# Altium integrated library Integrated_Library1b.IntLib: 1312 symbols (part 44 of 58)
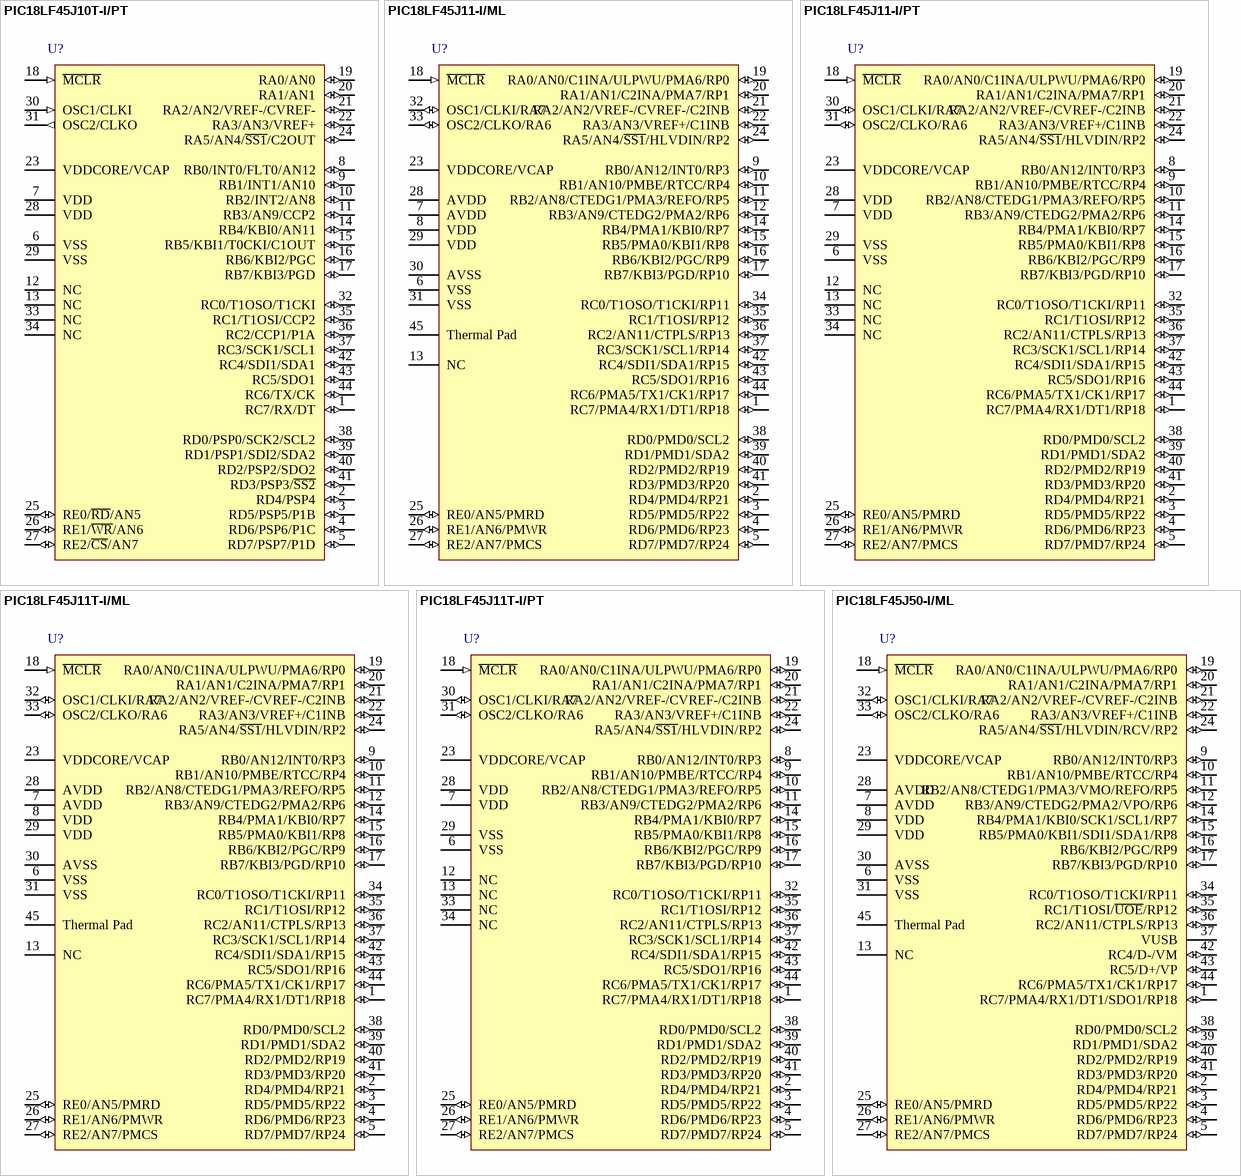
[diagram p192: symbols PIC18LF45J10T-I/PT to PIC18LF45J50-I/ML]

## PIC18LF45J50-I/ML
designator U?
Low Power, High Performance USB Microcontroller with nanoWatt XLP Technology, 44-pin QFN, Industrial Temperature; FirstPublished: 2-Dec-2009; DatasheetVersion: revC, Oct-2009; PackageVersion: revBB, Aug-2009; PackageReference: QFN-ML44; Publisher: Altium Limited; PackageDescription: 44-Lead Plastic Quad Flat, No Lead Package (ML) - 8x8 mm Body [QFN]; Supplier 1: Digi-Key; Supplier Part Number 1: PIC18LF45J50-I/ML-ND; Supplier 2: Farnell; Supplier Part Number 2: 1770740; Supplier 3: Newark; Supplier Part Number 3: 98M1892; Code_JEDEC: MO-220; Code_IPC: QFN65P800X800-44V2; ComponentLink1Description: Datasheet; ComponentLink1URL: http://ww1.microchip.com/downloads/en/DeviceDoc/39931c.pdf; ComponentLink2Description: Packaging Specification; ComponentLink2URL: http://www.microchip.com/stellent/groups/techpub_sg/documents/packagingspec/en012702.pdf; ComponentLink3Description: Microchip.com Home; ComponentLink3URL: http://www.microchip.com/
footprint QFN-ML44_N (QFN, 44-Leads, Body 8x8 mm, Pitch 0.65mm, IPC Medium Density)
footprint QFN-ML44_L (QFN, 44-Leads, Body 8x8 mm, Pitch 0.65mm, IPC High Density)
footprint QFN-ML44_M (QFN, 44-Leads, Body 8x8 mm, Pitch 0.65mm, IPC Low Density)
pins: 1 RC7/PMA4/RX1/DT1/SDO1/RP18 (io), 2 RD4/PMD4/RP21 (io), 3 RD5/PMD5/RP22 (io), 4 RD6/PMD6/RP23 (io), 5 RD7/PMD7/RP24 (io), 6 VSS (power), 7 AVDD (power), 8 VDD (power), 9 RB0/AN12/INT0/RP3 (io), 10 RB1/AN10/PMBE/RTCC/RP4 (io), 11 RB2/AN8/CTEDG1/PMA3/VMO/REFO/RP5 (io), 12 RB3/AN9/CTEDG2/PMA2/VPO/RP6 (io), 13 NC, 14 RB4/PMA1/KBI0/SCK1/SCL1/RP7 (io), 15 RB5/PMA0/KBI1/SDI1/SDA1/RP8 (io), 16 RB6/KBI2/PGC/RP9 (io), 17 RB7/KBI3/PGD/RP10 (io), 18 ~{MCLR} (in), 19 RA0/AN0/C1INA/ULPWU/PMA6/RP0 (io), 20 RA1/AN1/C2INA/PMA7/RP1 (io), 21 RA2/AN2/VREF-/CVREF-/C2INB (io), 22 RA3/AN3/VREF+/C1INB (io), 23 VDDCORE/VCAP (power), 24 RA5/AN4/~{SS1}/HLVDIN/RCV/RP2 (io), 25 RE0/AN5/PMRD (io), 26 RE1/AN6/PMWR (io), 27 RE2/AN7/PMCS (io), 28 AVDD (power), 29 VDD (power), 30 AVSS (power), 31 VSS (power), 32 OSC1/CLKI/RA7 (io), 33 OSC2/CLKO/RA6 (io), 34 RC0/T1OSO/T1CKI/RP11 (io), 35 RC1/T1OSI/~{UOE}/RP12 (io), 36 RC2/AN11/CTPLS/RP13 (io), 37 VUSB (power), 38 RD0/PMD0/SCL2 (io), 39 RD1/PMD1/SDA2 (io), 40 RD2/PMD2/RP19 (io), 41 RD3/PMD3/RP20 (io), 42 RC4/D-/VM (io), 43 RC5/D+/VP (io), 44 RC6/PMA5/TX1/CK1/RP17 (io), 45 Thermal Pad (power)

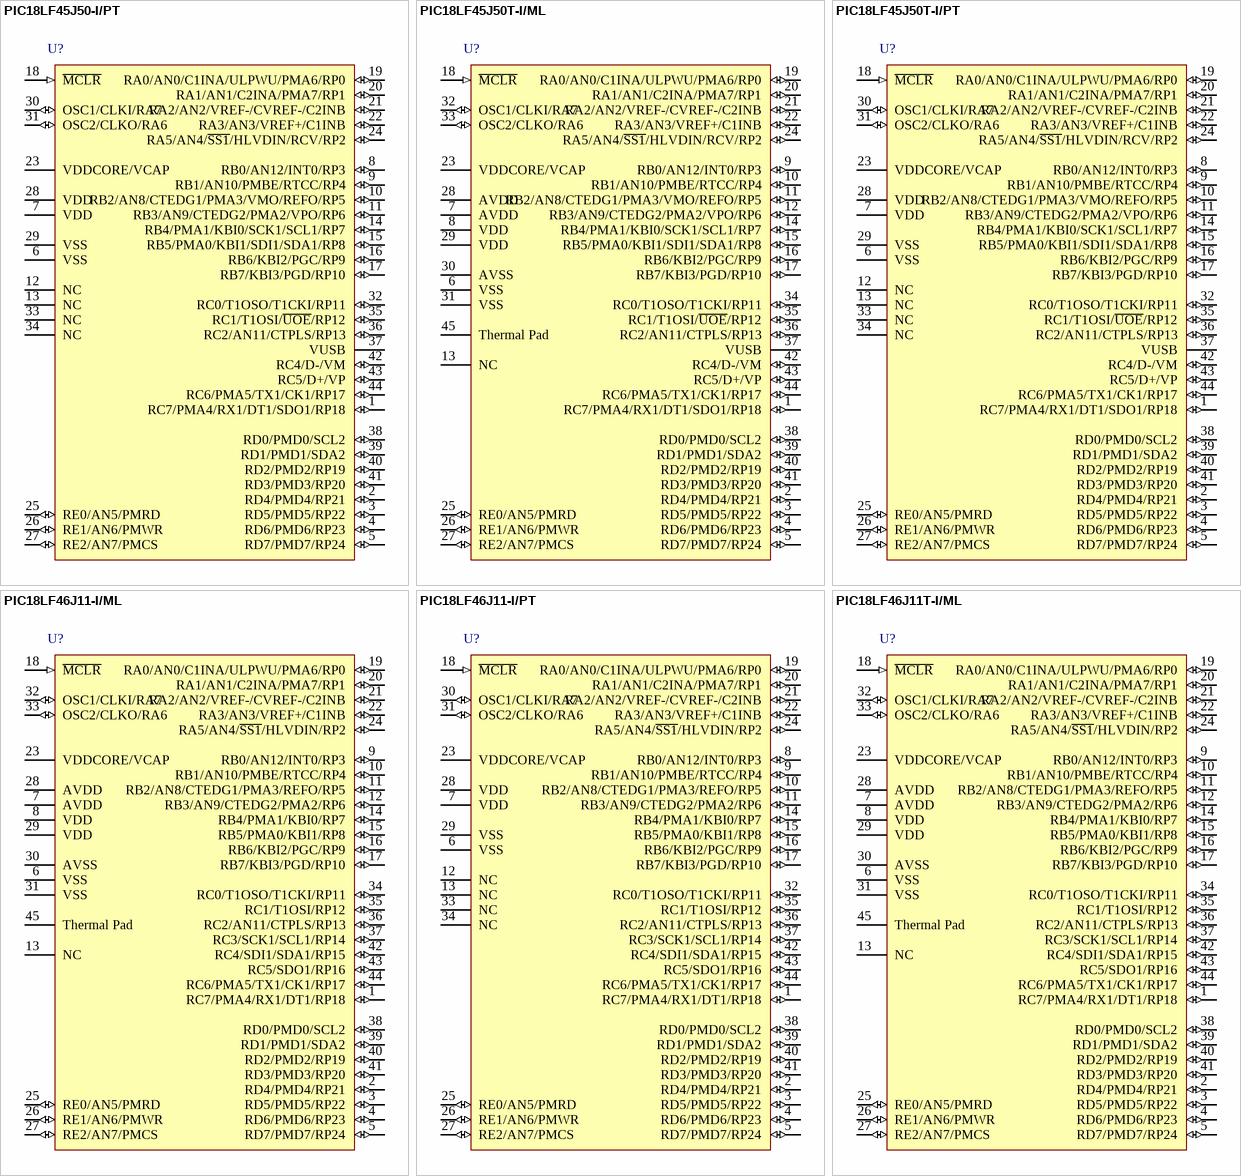
[diagram p115: symbols PIC18LF45J50-I/PT to PIC18LF46J11T-I/ML]

## PIC18LF45J50-I/PT
designator U?
Low Power, High Performance USB Microcontroller with nanoWatt XLP Technology, 44-pin TQFP, Industrial Temperature; FirstPublished: 2-Dec-2009; DatasheetVersion: revC, Oct-2009; PackageVersion: revBB, Aug-2009; PackageReference: TQFP-PT44; Publisher: Altium Limited; PackageDescription: 44-Lead Plastic Thin Quad Flatpack (PT) - 10x10x1mm Body, 2.00mm [TQFP]; Supplier 1: Digi-Key; Supplier Part Number 1: PIC18LF45J50-I/PT-ND; Supplier 2: Farnell; Supplier Part Number 2: 1770741; Supplier 3: Newark; Supplier Part Number 3: 98M1893; Code_JEDEC: MS-026; ComponentLink1Description: Datasheet; ComponentLink1URL: http://ww1.microchip.com/downloads/en/DeviceDoc/39931c.pdf; ComponentLink2Description: Packaging Specification; ComponentLink2URL: http://www.microchip.com/stellent/groups/techpub_sg/documents/packagingspec/en012702.pdf; ComponentLink3Description: Microchip.com Home; ComponentLink3URL: http://www.microchip.com/
footprint TQFP-PT44_N (Thin QFP, 44-Leads, Body 10x10mm, Pitch 0.8mm, IPC Medium Density)
footprint TQFP-PT44_L (Thin QFP, 44-Leads, Body 10x10mm, Pitch 0.8mm, IPC High Density)
footprint TQFP-PT44_M (Thin QFP, 44-Leads, Body 10x10mm, Pitch 0.8mm, IPC Low Density)
pins: 1 RC7/PMA4/RX1/DT1/SDO1/RP18 (io), 2 RD4/PMD4/RP21 (io), 3 RD5/PMD5/RP22 (io), 4 RD6/PMD6/RP23 (io), 5 RD7/PMD7/RP24 (io), 6 VSS (power), 7 VDD (power), 8 RB0/AN12/INT0/RP3 (io), 9 RB1/AN10/PMBE/RTCC/RP4 (io), 10 RB2/AN8/CTEDG1/PMA3/VMO/REFO/RP5 (io), 11 RB3/AN9/CTEDG2/PMA2/VPO/RP6 (io), 12 NC, 13 NC, 14 RB4/PMA1/KBI0/SCK1/SCL1/RP7 (io), 15 RB5/PMA0/KBI1/SDI1/SDA1/RP8 (io), 16 RB6/KBI2/PGC/RP9 (io), 17 RB7/KBI3/PGD/RP10 (io), 18 ~{MCLR} (in), 19 RA0/AN0/C1INA/ULPWU/PMA6/RP0 (io), 20 RA1/AN1/C2INA/PMA7/RP1 (io), 21 RA2/AN2/VREF-/CVREF-/C2INB (io), 22 RA3/AN3/VREF+/C1INB (io), 23 VDDCORE/VCAP (power), 24 RA5/AN4/~{SS1}/HLVDIN/RCV/RP2 (io), 25 RE0/AN5/PMRD (io), 26 RE1/AN6/PMWR (io), 27 RE2/AN7/PMCS (io), 28 VDD (power), 29 VSS (power), 30 OSC1/CLKI/RA7 (io), 31 OSC2/CLKO/RA6 (io), 32 RC0/T1OSO/T1CKI/RP11 (io), 33 NC, 34 NC, 35 RC1/T1OSI/~{UOE}/RP12 (io), 36 RC2/AN11/CTPLS/RP13 (io), 37 VUSB (power), 38 RD0/PMD0/SCL2 (io), 39 RD1/PMD1/SDA2 (io), 40 RD2/PMD2/RP19 (io), 41 RD3/PMD3/RP20 (io), 42 RC4/D-/VM (io), 43 RC5/D+/VP (io), 44 RC6/PMA5/TX1/CK1/RP17 (io)

## PIC18LF45J50T-I/ML
designator U?
Low Power, High Performance USB Microcontroller with nanoWatt XLP Technology, 44-pin QFN, Industrial Temperature, Tape and Reel; FirstPublished: 2-Dec-2009; DatasheetVersion: revC, Oct-2009; PackageVersion: revBB, Aug-2009; PackageReference: QFN-ML44; Publisher: Altium Limited; PackageDescription: 44-Lead Plastic Quad Flat, No Lead Package (ML) - 8x8 mm Body [QFN]; Supplier 1: Digi-Key; Supplier Part Number 1: PIC18LF45J50T-I/ML-ND; Supplier 2: Newark; Supplier Part Number 2: 98M1894; Code_JEDEC: MO-220; Code_IPC: QFN65P800X800-44V2; ComponentLink1Description: Datasheet; ComponentLink1URL: http://ww1.microchip.com/downloads/en/DeviceDoc/39931c.pdf; ComponentLink2Description: Packaging Specification; ComponentLink2URL: http://www.microchip.com/stellent/groups/techpub_sg/documents/packagingspec/en012702.pdf; ComponentLink3Description: Microchip.com Home; ComponentLink3URL: http://www.microchip.com/
footprint QFN-ML44_N (QFN, 44-Leads, Body 8x8 mm, Pitch 0.65mm, IPC Medium Density)
footprint QFN-ML44_L (QFN, 44-Leads, Body 8x8 mm, Pitch 0.65mm, IPC High Density)
footprint QFN-ML44_M (QFN, 44-Leads, Body 8x8 mm, Pitch 0.65mm, IPC Low Density)
pins: 1 RC7/PMA4/RX1/DT1/SDO1/RP18 (io), 2 RD4/PMD4/RP21 (io), 3 RD5/PMD5/RP22 (io), 4 RD6/PMD6/RP23 (io), 5 RD7/PMD7/RP24 (io), 6 VSS (power), 7 AVDD (power), 8 VDD (power), 9 RB0/AN12/INT0/RP3 (io), 10 RB1/AN10/PMBE/RTCC/RP4 (io), 11 RB2/AN8/CTEDG1/PMA3/VMO/REFO/RP5 (io), 12 RB3/AN9/CTEDG2/PMA2/VPO/RP6 (io), 13 NC, 14 RB4/PMA1/KBI0/SCK1/SCL1/RP7 (io), 15 RB5/PMA0/KBI1/SDI1/SDA1/RP8 (io), 16 RB6/KBI2/PGC/RP9 (io), 17 RB7/KBI3/PGD/RP10 (io), 18 ~{MCLR} (in), 19 RA0/AN0/C1INA/ULPWU/PMA6/RP0 (io), 20 RA1/AN1/C2INA/PMA7/RP1 (io), 21 RA2/AN2/VREF-/CVREF-/C2INB (io), 22 RA3/AN3/VREF+/C1INB (io), 23 VDDCORE/VCAP (power), 24 RA5/AN4/~{SS1}/HLVDIN/RCV/RP2 (io), 25 RE0/AN5/PMRD (io), 26 RE1/AN6/PMWR (io), 27 RE2/AN7/PMCS (io), 28 AVDD (power), 29 VDD (power), 30 AVSS (power), 31 VSS (power), 32 OSC1/CLKI/RA7 (io), 33 OSC2/CLKO/RA6 (io), 34 RC0/T1OSO/T1CKI/RP11 (io), 35 RC1/T1OSI/~{UOE}/RP12 (io), 36 RC2/AN11/CTPLS/RP13 (io), 37 VUSB (power), 38 RD0/PMD0/SCL2 (io), 39 RD1/PMD1/SDA2 (io), 40 RD2/PMD2/RP19 (io), 41 RD3/PMD3/RP20 (io), 42 RC4/D-/VM (io), 43 RC5/D+/VP (io), 44 RC6/PMA5/TX1/CK1/RP17 (io), 45 Thermal Pad (power)

## PIC18LF45J50T-I/PT
designator U?
Low Power, High Performance USB Microcontroller with nanoWatt XLP Technology, 44-pin TQFP, Industrial Temperature, Tape and Reel; FirstPublished: 2-Dec-2009; DatasheetVersion: revC, Oct-2009; PackageVersion: revBB, Aug-2009; PackageReference: TQFP-PT44; Publisher: Altium Limited; PackageDescription: 44-Lead Plastic Thin Quad Flatpack (PT) - 10x10x1mm Body, 2.00mm [TQFP]; Supplier 1: Digi-Key; Supplier Part Number 1: PIC18LF45J50T-I/PT-ND; Supplier 2: Newark; Supplier Part Number 2: 98M1895; Code_JEDEC: MS-026; ComponentLink1Description: Datasheet; ComponentLink1URL: http://ww1.microchip.com/downloads/en/DeviceDoc/39931c.pdf; ComponentLink2Description: Packaging Specification; ComponentLink2URL: http://www.microchip.com/stellent/groups/techpub_sg/documents/packagingspec/en012702.pdf; ComponentLink3Description: Microchip.com Home; ComponentLink3URL: http://www.microchip.com/
footprint TQFP-PT44_N (Thin QFP, 44-Leads, Body 10x10mm, Pitch 0.8mm, IPC Medium Density)
footprint TQFP-PT44_L (Thin QFP, 44-Leads, Body 10x10mm, Pitch 0.8mm, IPC High Density)
footprint TQFP-PT44_M (Thin QFP, 44-Leads, Body 10x10mm, Pitch 0.8mm, IPC Low Density)
pins: 1 RC7/PMA4/RX1/DT1/SDO1/RP18 (io), 2 RD4/PMD4/RP21 (io), 3 RD5/PMD5/RP22 (io), 4 RD6/PMD6/RP23 (io), 5 RD7/PMD7/RP24 (io), 6 VSS (power), 7 VDD (power), 8 RB0/AN12/INT0/RP3 (io), 9 RB1/AN10/PMBE/RTCC/RP4 (io), 10 RB2/AN8/CTEDG1/PMA3/VMO/REFO/RP5 (io), 11 RB3/AN9/CTEDG2/PMA2/VPO/RP6 (io), 12 NC, 13 NC, 14 RB4/PMA1/KBI0/SCK1/SCL1/RP7 (io), 15 RB5/PMA0/KBI1/SDI1/SDA1/RP8 (io), 16 RB6/KBI2/PGC/RP9 (io), 17 RB7/KBI3/PGD/RP10 (io), 18 ~{MCLR} (in), 19 RA0/AN0/C1INA/ULPWU/PMA6/RP0 (io), 20 RA1/AN1/C2INA/PMA7/RP1 (io), 21 RA2/AN2/VREF-/CVREF-/C2INB (io), 22 RA3/AN3/VREF+/C1INB (io), 23 VDDCORE/VCAP (power), 24 RA5/AN4/~{SS1}/HLVDIN/RCV/RP2 (io), 25 RE0/AN5/PMRD (io), 26 RE1/AN6/PMWR (io), 27 RE2/AN7/PMCS (io), 28 VDD (power), 29 VSS (power), 30 OSC1/CLKI/RA7 (io), 31 OSC2/CLKO/RA6 (io), 32 RC0/T1OSO/T1CKI/RP11 (io), 33 NC, 34 NC, 35 RC1/T1OSI/~{UOE}/RP12 (io), 36 RC2/AN11/CTPLS/RP13 (io), 37 VUSB (power), 38 RD0/PMD0/SCL2 (io), 39 RD1/PMD1/SDA2 (io), 40 RD2/PMD2/RP19 (io), 41 RD3/PMD3/RP20 (io), 42 RC4/D-/VM (io), 43 RC5/D+/VP (io), 44 RC6/PMA5/TX1/CK1/RP17 (io)

## PIC18LF46J11-I/ML
designator U?
Low Power, High Performance Microcontroller with nanoWatt XLP Technology, 44-pin QFN, Industrial Temperature; FirstPublished: 2-Dec-2009; DatasheetVersion: revC, Oct-2009; PackageVersion: revBB, Aug-2009; PackageReference: QFN-ML44; Publisher: Altium Limited; PackageDescription: 44-Lead Plastic Quad Flat, No Lead Package (ML) - 8x8 mm Body [QFN]; Supplier 1: Digi-Key; Supplier Part Number 1: PIC18LF46J11-I/ML-ND; Supplier 2: Farnell; Supplier Part Number 2: 1770742; Supplier 3: Newark; Supplier Part Number 3: 98M1896; Code_JEDEC: MO-220; Code_IPC: QFN65P800X800-44V2; ComponentLink1Description: Datasheet; ComponentLink1URL: http://ww1.microchip.com/downloads/en/DeviceDoc/39932c.pdf; ComponentLink2Description: Packaging Specification; ComponentLink2URL: http://www.microchip.com/stellent/groups/techpub_sg/documents/packagingspec/en012702.pdf; ComponentLink3Description: Microchip.com Home; ComponentLink3URL: http://www.microchip.com/
footprint QFN-ML44_N (QFN, 44-Leads, Body 8x8 mm, Pitch 0.65mm, IPC Medium Density)
footprint QFN-ML44_L (QFN, 44-Leads, Body 8x8 mm, Pitch 0.65mm, IPC High Density)
footprint QFN-ML44_M (QFN, 44-Leads, Body 8x8 mm, Pitch 0.65mm, IPC Low Density)
pins: 1 RC7/PMA4/RX1/DT1/RP18 (io), 2 RD4/PMD4/RP21 (io), 3 RD5/PMD5/RP22 (io), 4 RD6/PMD6/RP23 (io), 5 RD7/PMD7/RP24 (io), 6 VSS (power), 7 AVDD (power), 8 VDD (power), 9 RB0/AN12/INT0/RP3 (io), 10 RB1/AN10/PMBE/RTCC/RP4 (io), 11 RB2/AN8/CTEDG1/PMA3/REFO/RP5 (io), 12 RB3/AN9/CTEDG2/PMA2/RP6 (io), 13 NC, 14 RB4/PMA1/KBI0/RP7 (io), 15 RB5/PMA0/KBI1/RP8 (io), 16 RB6/KBI2/PGC/RP9 (io), 17 RB7/KBI3/PGD/RP10 (io), 18 ~{MCLR} (in), 19 RA0/AN0/C1INA/ULPWU/PMA6/RP0 (io), 20 RA1/AN1/C2INA/PMA7/RP1 (io), 21 RA2/AN2/VREF-/CVREF-/C2INB (io), 22 RA3/AN3/VREF+/C1INB (io), 23 VDDCORE/VCAP (power), 24 RA5/AN4/~{SS1}/HLVDIN/RP2 (io), 25 RE0/AN5/PMRD (io), 26 RE1/AN6/PMWR (io), 27 RE2/AN7/PMCS (io), 28 AVDD (power), 29 VDD (power), 30 AVSS (power), 31 VSS (power), 32 OSC1/CLKI/RA7 (io), 33 OSC2/CLKO/RA6 (io), 34 RC0/T1OSO/T1CKI/RP11 (io), 35 RC1/T1OSI/RP12 (io), 36 RC2/AN11/CTPLS/RP13 (io), 37 RC3/SCK1/SCL1/RP14 (io), 38 RD0/PMD0/SCL2 (io), 39 RD1/PMD1/SDA2 (io), 40 RD2/PMD2/RP19 (io), 41 RD3/PMD3/RP20 (io), 42 RC4/SDI1/SDA1/RP15 (io), 43 RC5/SDO1/RP16 (io), 44 RC6/PMA5/TX1/CK1/RP17 (io), 45 Thermal Pad (power)

## PIC18LF46J11-I/PT
designator U?
Low Power, High Performance Microcontroller with nanoWatt XLP Technology, 44-pin TQFP, Industrial Temperature; FirstPublished: 2-Dec-2009; DatasheetVersion: revC, Oct-2009; PackageVersion: revBB, Aug-2009; PackageReference: TQFP-PT44; Publisher: Altium Limited; PackageDescription: 44-Lead Plastic Thin Quad Flatpack (PT) - 10x10x1mm Body, 2.00mm [TQFP]; Supplier 1: Digi-Key; Supplier Part Number 1: PIC18LF46J11-I/PT-ND; Supplier 2: Farnell; Supplier Part Number 2: 1770744; Supplier 3: Newark; Supplier Part Number 3: 98M1897; Code_JEDEC: MS-026; ComponentLink1Description: Datasheet; ComponentLink1URL: http://ww1.microchip.com/downloads/en/DeviceDoc/39932c.pdf; ComponentLink2Description: Packaging Specification; ComponentLink2URL: http://www.microchip.com/stellent/groups/techpub_sg/documents/packagingspec/en012702.pdf; ComponentLink3Description: Microchip.com Home; ComponentLink3URL: http://www.microchip.com/
footprint TQFP-PT44_N (Thin QFP, 44-Leads, Body 10x10mm, Pitch 0.8mm, IPC Medium Density)
footprint TQFP-PT44_L (Thin QFP, 44-Leads, Body 10x10mm, Pitch 0.8mm, IPC High Density)
footprint TQFP-PT44_M (Thin QFP, 44-Leads, Body 10x10mm, Pitch 0.8mm, IPC Low Density)
pins: 1 RC7/PMA4/RX1/DT1/RP18 (io), 2 RD4/PMD4/RP21 (io), 3 RD5/PMD5/RP22 (io), 4 RD6/PMD6/RP23 (io), 5 RD7/PMD7/RP24 (io), 6 VSS (power), 7 VDD (power), 8 RB0/AN12/INT0/RP3 (io), 9 RB1/AN10/PMBE/RTCC/RP4 (io), 10 RB2/AN8/CTEDG1/PMA3/REFO/RP5 (io), 11 RB3/AN9/CTEDG2/PMA2/RP6 (io), 12 NC, 13 NC, 14 RB4/PMA1/KBI0/RP7 (io), 15 RB5/PMA0/KBI1/RP8 (io), 16 RB6/KBI2/PGC/RP9 (io), 17 RB7/KBI3/PGD/RP10 (io), 18 ~{MCLR} (in), 19 RA0/AN0/C1INA/ULPWU/PMA6/RP0 (io), 20 RA1/AN1/C2INA/PMA7/RP1 (io), 21 RA2/AN2/VREF-/CVREF-/C2INB (io), 22 RA3/AN3/VREF+/C1INB (io), 23 VDDCORE/VCAP (power), 24 RA5/AN4/~{SS1}/HLVDIN/RP2 (io), 25 RE0/AN5/PMRD (io), 26 RE1/AN6/PMWR (io), 27 RE2/AN7/PMCS (io), 28 VDD (power), 29 VSS (power), 30 OSC1/CLKI/RA7 (io), 31 OSC2/CLKO/RA6 (io), 32 RC0/T1OSO/T1CKI/RP11 (io), 33 NC, 34 NC, 35 RC1/T1OSI/RP12 (io), 36 RC2/AN11/CTPLS/RP13 (io), 37 RC3/SCK1/SCL1/RP14 (io), 38 RD0/PMD0/SCL2 (io), 39 RD1/PMD1/SDA2 (io), 40 RD2/PMD2/RP19 (io), 41 RD3/PMD3/RP20 (io), 42 RC4/SDI1/SDA1/RP15 (io), 43 RC5/SDO1/RP16 (io), 44 RC6/PMA5/TX1/CK1/RP17 (io)

## PIC18LF46J11T-I/ML
designator U?
Low Power, High Performance Microcontroller with nanoWatt XLP Technology, 44-pin QFN, Industrial Temperature, Tape and Reel; FirstPublished: 2-Dec-2009; DatasheetVersion: revC, Oct-2009; PackageVersion: revBB, Aug-2009; PackageReference: QFN-ML44; Publisher: Altium Limited; PackageDescription: 44-Lead Plastic Quad Flat, No Lead Package (ML) - 8x8 mm Body [QFN]; Supplier 1: Digi-Key; Supplier Part Number 1: PIC18LF46J11T-I/ML-ND; Supplier 2: Newark; Supplier Part Number 2: 98M1898; Code_JEDEC: MO-220; Code_IPC: QFN65P800X800-44V2; ComponentLink1Description: Datasheet; ComponentLink1URL: http://ww1.microchip.com/downloads/en/DeviceDoc/39932c.pdf; ComponentLink2Description: Packaging Specification; ComponentLink2URL: http://www.microchip.com/stellent/groups/techpub_sg/documents/packagingspec/en012702.pdf; ComponentLink3Description: Microchip.com Home; ComponentLink3URL: http://www.microchip.com/
footprint QFN-ML44_N (QFN, 44-Leads, Body 8x8 mm, Pitch 0.65mm, IPC Medium Density)
footprint QFN-ML44_L (QFN, 44-Leads, Body 8x8 mm, Pitch 0.65mm, IPC High Density)
footprint QFN-ML44_M (QFN, 44-Leads, Body 8x8 mm, Pitch 0.65mm, IPC Low Density)
pins: 1 RC7/PMA4/RX1/DT1/RP18 (io), 2 RD4/PMD4/RP21 (io), 3 RD5/PMD5/RP22 (io), 4 RD6/PMD6/RP23 (io), 5 RD7/PMD7/RP24 (io), 6 VSS (power), 7 AVDD (power), 8 VDD (power), 9 RB0/AN12/INT0/RP3 (io), 10 RB1/AN10/PMBE/RTCC/RP4 (io), 11 RB2/AN8/CTEDG1/PMA3/REFO/RP5 (io), 12 RB3/AN9/CTEDG2/PMA2/RP6 (io), 13 NC, 14 RB4/PMA1/KBI0/RP7 (io), 15 RB5/PMA0/KBI1/RP8 (io), 16 RB6/KBI2/PGC/RP9 (io), 17 RB7/KBI3/PGD/RP10 (io), 18 ~{MCLR} (in), 19 RA0/AN0/C1INA/ULPWU/PMA6/RP0 (io), 20 RA1/AN1/C2INA/PMA7/RP1 (io), 21 RA2/AN2/VREF-/CVREF-/C2INB (io), 22 RA3/AN3/VREF+/C1INB (io), 23 VDDCORE/VCAP (power), 24 RA5/AN4/~{SS1}/HLVDIN/RP2 (io), 25 RE0/AN5/PMRD (io), 26 RE1/AN6/PMWR (io), 27 RE2/AN7/PMCS (io), 28 AVDD (power), 29 VDD (power), 30 AVSS (power), 31 VSS (power), 32 OSC1/CLKI/RA7 (io), 33 OSC2/CLKO/RA6 (io), 34 RC0/T1OSO/T1CKI/RP11 (io), 35 RC1/T1OSI/RP12 (io), 36 RC2/AN11/CTPLS/RP13 (io), 37 RC3/SCK1/SCL1/RP14 (io), 38 RD0/PMD0/SCL2 (io), 39 RD1/PMD1/SDA2 (io), 40 RD2/PMD2/RP19 (io), 41 RD3/PMD3/RP20 (io), 42 RC4/SDI1/SDA1/RP15 (io), 43 RC5/SDO1/RP16 (io), 44 RC6/PMA5/TX1/CK1/RP17 (io), 45 Thermal Pad (power)

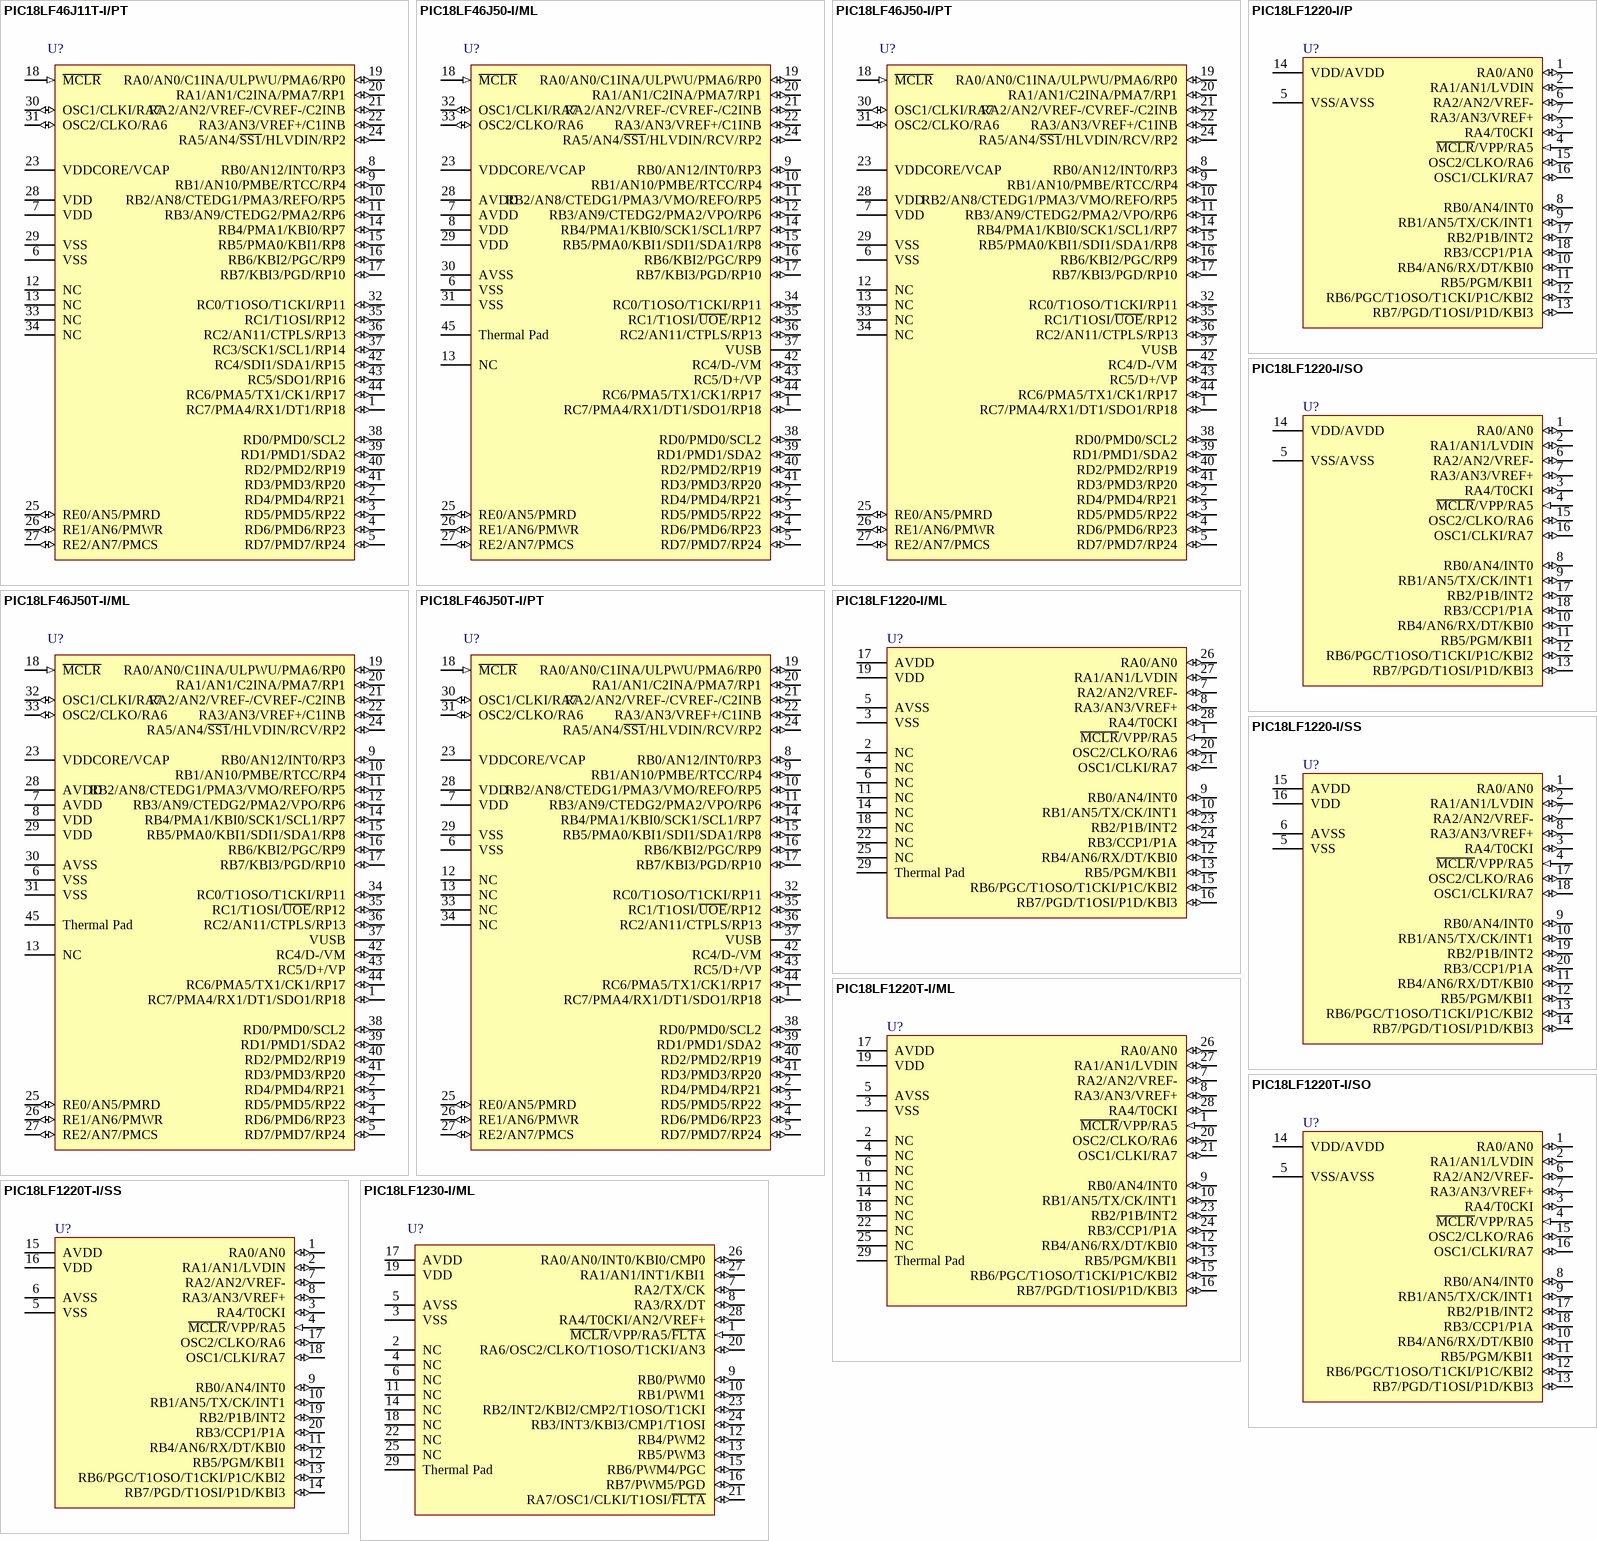
[diagram p116: symbols PIC18LF46J11T-I/PT to PIC18LF1230-I/ML]

## PIC18LF46J11T-I/PT
designator U?
Low Power, High Performance Microcontroller with nanoWatt XLP Technology, 44-pin TQFP, Industrial Temperature, Tape and Reel; FirstPublished: 2-Dec-2009; DatasheetVersion: revC, Oct-2009; PackageVersion: revBB, Aug-2009; PackageReference: TQFP-PT44; Publisher: Altium Limited; PackageDescription: 44-Lead Plastic Thin Quad Flatpack (PT) - 10x10x1mm Body, 2.00mm [TQFP]; Supplier 1: Digi-Key; Supplier Part Number 1: PIC18LF46J11T-I/PT-ND; Supplier 2: Newark; Supplier Part Number 2: 98M1899; Code_JEDEC: MS-026; ComponentLink1Description: Datasheet; ComponentLink1URL: http://ww1.microchip.com/downloads/en/DeviceDoc/39932c.pdf; ComponentLink2Description: Packaging Specification; ComponentLink2URL: http://www.microchip.com/stellent/groups/techpub_sg/documents/packagingspec/en012702.pdf; ComponentLink3Description: Microchip.com Home; ComponentLink3URL: http://www.microchip.com/
footprint TQFP-PT44_N (Thin QFP, 44-Leads, Body 10x10mm, Pitch 0.8mm, IPC Medium Density)
footprint TQFP-PT44_L (Thin QFP, 44-Leads, Body 10x10mm, Pitch 0.8mm, IPC High Density)
footprint TQFP-PT44_M (Thin QFP, 44-Leads, Body 10x10mm, Pitch 0.8mm, IPC Low Density)
pins: 1 RC7/PMA4/RX1/DT1/RP18 (io), 2 RD4/PMD4/RP21 (io), 3 RD5/PMD5/RP22 (io), 4 RD6/PMD6/RP23 (io), 5 RD7/PMD7/RP24 (io), 6 VSS (power), 7 VDD (power), 8 RB0/AN12/INT0/RP3 (io), 9 RB1/AN10/PMBE/RTCC/RP4 (io), 10 RB2/AN8/CTEDG1/PMA3/REFO/RP5 (io), 11 RB3/AN9/CTEDG2/PMA2/RP6 (io), 12 NC, 13 NC, 14 RB4/PMA1/KBI0/RP7 (io), 15 RB5/PMA0/KBI1/RP8 (io), 16 RB6/KBI2/PGC/RP9 (io), 17 RB7/KBI3/PGD/RP10 (io), 18 ~{MCLR} (in), 19 RA0/AN0/C1INA/ULPWU/PMA6/RP0 (io), 20 RA1/AN1/C2INA/PMA7/RP1 (io), 21 RA2/AN2/VREF-/CVREF-/C2INB (io), 22 RA3/AN3/VREF+/C1INB (io), 23 VDDCORE/VCAP (power), 24 RA5/AN4/~{SS1}/HLVDIN/RP2 (io), 25 RE0/AN5/PMRD (io), 26 RE1/AN6/PMWR (io), 27 RE2/AN7/PMCS (io), 28 VDD (power), 29 VSS (power), 30 OSC1/CLKI/RA7 (io), 31 OSC2/CLKO/RA6 (io), 32 RC0/T1OSO/T1CKI/RP11 (io), 33 NC, 34 NC, 35 RC1/T1OSI/RP12 (io), 36 RC2/AN11/CTPLS/RP13 (io), 37 RC3/SCK1/SCL1/RP14 (io), 38 RD0/PMD0/SCL2 (io), 39 RD1/PMD1/SDA2 (io), 40 RD2/PMD2/RP19 (io), 41 RD3/PMD3/RP20 (io), 42 RC4/SDI1/SDA1/RP15 (io), 43 RC5/SDO1/RP16 (io), 44 RC6/PMA5/TX1/CK1/RP17 (io)

## PIC18LF46J50-I/ML
designator U?
Low Power, High Performance USB Microcontroller with nanoWatt XLP Technology, 44-pin QFN, Industrial Temperature; FirstPublished: 2-Dec-2009; DatasheetVersion: revC, Oct-2009; PackageVersion: revBB, Aug-2009; PackageReference: QFN-ML44; Publisher: Altium Limited; PackageDescription: 44-Lead Plastic Quad Flat, No Lead Package (ML) - 8x8 mm Body [QFN]; Supplier 1: Digi-Key; Supplier Part Number 1: PIC18LF46J50-I/ML-ND; Supplier 2: Farnell; Supplier Part Number 2: 1770745; Supplier 3: Newark; Supplier Part Number 3: 98M1900; Code_JEDEC: MO-220; Code_IPC: QFN65P800X800-44V2; ComponentLink1Description: Datasheet; ComponentLink1URL: http://ww1.microchip.com/downloads/en/DeviceDoc/39931c.pdf; ComponentLink2Description: Packaging Specification; ComponentLink2URL: http://www.microchip.com/stellent/groups/techpub_sg/documents/packagingspec/en012702.pdf; ComponentLink3Description: Microchip.com Home; ComponentLink3URL: http://www.microchip.com/
footprint QFN-ML44_N (QFN, 44-Leads, Body 8x8 mm, Pitch 0.65mm, IPC Medium Density)
footprint QFN-ML44_L (QFN, 44-Leads, Body 8x8 mm, Pitch 0.65mm, IPC High Density)
footprint QFN-ML44_M (QFN, 44-Leads, Body 8x8 mm, Pitch 0.65mm, IPC Low Density)
pins: 1 RC7/PMA4/RX1/DT1/SDO1/RP18 (io), 2 RD4/PMD4/RP21 (io), 3 RD5/PMD5/RP22 (io), 4 RD6/PMD6/RP23 (io), 5 RD7/PMD7/RP24 (io), 6 VSS (power), 7 AVDD (power), 8 VDD (power), 9 RB0/AN12/INT0/RP3 (io), 10 RB1/AN10/PMBE/RTCC/RP4 (io), 11 RB2/AN8/CTEDG1/PMA3/VMO/REFO/RP5 (io), 12 RB3/AN9/CTEDG2/PMA2/VPO/RP6 (io), 13 NC, 14 RB4/PMA1/KBI0/SCK1/SCL1/RP7 (io), 15 RB5/PMA0/KBI1/SDI1/SDA1/RP8 (io), 16 RB6/KBI2/PGC/RP9 (io), 17 RB7/KBI3/PGD/RP10 (io), 18 ~{MCLR} (in), 19 RA0/AN0/C1INA/ULPWU/PMA6/RP0 (io), 20 RA1/AN1/C2INA/PMA7/RP1 (io), 21 RA2/AN2/VREF-/CVREF-/C2INB (io), 22 RA3/AN3/VREF+/C1INB (io), 23 VDDCORE/VCAP (power), 24 RA5/AN4/~{SS1}/HLVDIN/RCV/RP2 (io), 25 RE0/AN5/PMRD (io), 26 RE1/AN6/PMWR (io), 27 RE2/AN7/PMCS (io), 28 AVDD (power), 29 VDD (power), 30 AVSS (power), 31 VSS (power), 32 OSC1/CLKI/RA7 (io), 33 OSC2/CLKO/RA6 (io), 34 RC0/T1OSO/T1CKI/RP11 (io), 35 RC1/T1OSI/~{UOE}/RP12 (io), 36 RC2/AN11/CTPLS/RP13 (io), 37 VUSB (power), 38 RD0/PMD0/SCL2 (io), 39 RD1/PMD1/SDA2 (io), 40 RD2/PMD2/RP19 (io), 41 RD3/PMD3/RP20 (io), 42 RC4/D-/VM (io), 43 RC5/D+/VP (io), 44 RC6/PMA5/TX1/CK1/RP17 (io), 45 Thermal Pad (power)

## PIC18LF46J50-I/PT
designator U?
Low Power, High Performance USB Microcontroller with nanoWatt XLP Technology, 44-pin TQFP, Industrial Temperature; FirstPublished: 2-Dec-2009; DatasheetVersion: revC, Oct-2009; PackageVersion: revBB, Aug-2009; PackageReference: TQFP-PT44; Publisher: Altium Limited; PackageDescription: 44-Lead Plastic Thin Quad Flatpack (PT) - 10x10x1mm Body, 2.00mm [TQFP]; Supplier 1: Digi-Key; Supplier Part Number 1: PIC18LF46J50-I/PT-ND; Supplier 2: Farnell; Supplier Part Number 2: 1770746; Supplier 3: Newark; Supplier Part Number 3: 98M1901; Code_JEDEC: MS-026; ComponentLink1Description: Datasheet; ComponentLink1URL: http://ww1.microchip.com/downloads/en/DeviceDoc/39931c.pdf; ComponentLink2Description: Packaging Specification; ComponentLink2URL: http://www.microchip.com/stellent/groups/techpub_sg/documents/packagingspec/en012702.pdf; ComponentLink3Description: Microchip.com Home; ComponentLink3URL: http://www.microchip.com/
footprint TQFP-PT44_N (Thin QFP, 44-Leads, Body 10x10mm, Pitch 0.8mm, IPC Medium Density)
footprint TQFP-PT44_L (Thin QFP, 44-Leads, Body 10x10mm, Pitch 0.8mm, IPC High Density)
footprint TQFP-PT44_M (Thin QFP, 44-Leads, Body 10x10mm, Pitch 0.8mm, IPC Low Density)
pins: 1 RC7/PMA4/RX1/DT1/SDO1/RP18 (io), 2 RD4/PMD4/RP21 (io), 3 RD5/PMD5/RP22 (io), 4 RD6/PMD6/RP23 (io), 5 RD7/PMD7/RP24 (io), 6 VSS (power), 7 VDD (power), 8 RB0/AN12/INT0/RP3 (io), 9 RB1/AN10/PMBE/RTCC/RP4 (io), 10 RB2/AN8/CTEDG1/PMA3/VMO/REFO/RP5 (io), 11 RB3/AN9/CTEDG2/PMA2/VPO/RP6 (io), 12 NC, 13 NC, 14 RB4/PMA1/KBI0/SCK1/SCL1/RP7 (io), 15 RB5/PMA0/KBI1/SDI1/SDA1/RP8 (io), 16 RB6/KBI2/PGC/RP9 (io), 17 RB7/KBI3/PGD/RP10 (io), 18 ~{MCLR} (in), 19 RA0/AN0/C1INA/ULPWU/PMA6/RP0 (io), 20 RA1/AN1/C2INA/PMA7/RP1 (io), 21 RA2/AN2/VREF-/CVREF-/C2INB (io), 22 RA3/AN3/VREF+/C1INB (io), 23 VDDCORE/VCAP (power), 24 RA5/AN4/~{SS1}/HLVDIN/RCV/RP2 (io), 25 RE0/AN5/PMRD (io), 26 RE1/AN6/PMWR (io), 27 RE2/AN7/PMCS (io), 28 VDD (power), 29 VSS (power), 30 OSC1/CLKI/RA7 (io), 31 OSC2/CLKO/RA6 (io), 32 RC0/T1OSO/T1CKI/RP11 (io), 33 NC, 34 NC, 35 RC1/T1OSI/~{UOE}/RP12 (io), 36 RC2/AN11/CTPLS/RP13 (io), 37 VUSB (power), 38 RD0/PMD0/SCL2 (io), 39 RD1/PMD1/SDA2 (io), 40 RD2/PMD2/RP19 (io), 41 RD3/PMD3/RP20 (io), 42 RC4/D-/VM (io), 43 RC5/D+/VP (io), 44 RC6/PMA5/TX1/CK1/RP17 (io)

## PIC18LF46J50T-I/ML
designator U?
Low Power, High Performance USB Microcontroller with nanoWatt XLP Technology, 44-pin QFN, Industrial Temperature, Tape and Reel; FirstPublished: 2-Dec-2009; DatasheetVersion: revC, Oct-2009; PackageVersion: revBB, Aug-2009; PackageReference: QFN-ML44; Publisher: Altium Limited; PackageDescription: 44-Lead Plastic Quad Flat, No Lead Package (ML) - 8x8 mm Body [QFN]; Supplier 1: Digi-Key; Supplier Part Number 1: PIC18LF46J50T-I/ML-ND; Supplier 2: Newark; Supplier Part Number 2: 98M1902; Code_JEDEC: MO-220; Code_IPC: QFN65P800X800-44V2; ComponentLink1Description: Datasheet; ComponentLink1URL: http://ww1.microchip.com/downloads/en/DeviceDoc/39931c.pdf; ComponentLink2Description: Packaging Specification; ComponentLink2URL: http://www.microchip.com/stellent/groups/techpub_sg/documents/packagingspec/en012702.pdf; ComponentLink3Description: Microchip.com Home; ComponentLink3URL: http://www.microchip.com/
footprint QFN-ML44_N (QFN, 44-Leads, Body 8x8 mm, Pitch 0.65mm, IPC Medium Density)
footprint QFN-ML44_L (QFN, 44-Leads, Body 8x8 mm, Pitch 0.65mm, IPC High Density)
footprint QFN-ML44_M (QFN, 44-Leads, Body 8x8 mm, Pitch 0.65mm, IPC Low Density)
pins: 1 RC7/PMA4/RX1/DT1/SDO1/RP18 (io), 2 RD4/PMD4/RP21 (io), 3 RD5/PMD5/RP22 (io), 4 RD6/PMD6/RP23 (io), 5 RD7/PMD7/RP24 (io), 6 VSS (power), 7 AVDD (power), 8 VDD (power), 9 RB0/AN12/INT0/RP3 (io), 10 RB1/AN10/PMBE/RTCC/RP4 (io), 11 RB2/AN8/CTEDG1/PMA3/VMO/REFO/RP5 (io), 12 RB3/AN9/CTEDG2/PMA2/VPO/RP6 (io), 13 NC, 14 RB4/PMA1/KBI0/SCK1/SCL1/RP7 (io), 15 RB5/PMA0/KBI1/SDI1/SDA1/RP8 (io), 16 RB6/KBI2/PGC/RP9 (io), 17 RB7/KBI3/PGD/RP10 (io), 18 ~{MCLR} (in), 19 RA0/AN0/C1INA/ULPWU/PMA6/RP0 (io), 20 RA1/AN1/C2INA/PMA7/RP1 (io), 21 RA2/AN2/VREF-/CVREF-/C2INB (io), 22 RA3/AN3/VREF+/C1INB (io), 23 VDDCORE/VCAP (power), 24 RA5/AN4/~{SS1}/HLVDIN/RCV/RP2 (io), 25 RE0/AN5/PMRD (io), 26 RE1/AN6/PMWR (io), 27 RE2/AN7/PMCS (io), 28 AVDD (power), 29 VDD (power), 30 AVSS (power), 31 VSS (power), 32 OSC1/CLKI/RA7 (io), 33 OSC2/CLKO/RA6 (io), 34 RC0/T1OSO/T1CKI/RP11 (io), 35 RC1/T1OSI/~{UOE}/RP12 (io), 36 RC2/AN11/CTPLS/RP13 (io), 37 VUSB (power), 38 RD0/PMD0/SCL2 (io), 39 RD1/PMD1/SDA2 (io), 40 RD2/PMD2/RP19 (io), 41 RD3/PMD3/RP20 (io), 42 RC4/D-/VM (io), 43 RC5/D+/VP (io), 44 RC6/PMA5/TX1/CK1/RP17 (io), 45 Thermal Pad (power)

## PIC18LF46J50T-I/PT
designator U?
Low Power, High Performance USB Microcontroller with nanoWatt XLP Technology, 44-pin TQFP, Industrial Temperature, Tape and Reel; FirstPublished: 2-Dec-2009; DatasheetVersion: revC, Oct-2009; PackageVersion: revBB, Aug-2009; PackageReference: TQFP-PT44; Publisher: Altium Limited; PackageDescription: 44-Lead Plastic Thin Quad Flatpack (PT) - 10x10x1mm Body, 2.00mm [TQFP]; Supplier 1: Digi-Key; Supplier Part Number 1: PIC18LF46J50T-I/PT-ND; Supplier 2: Newark; Supplier Part Number 2: 98M1903; Code_JEDEC: MS-026; ComponentLink1Description: Datasheet; ComponentLink1URL: http://ww1.microchip.com/downloads/en/DeviceDoc/39931c.pdf; ComponentLink2Description: Packaging Specification; ComponentLink2URL: http://www.microchip.com/stellent/groups/techpub_sg/documents/packagingspec/en012702.pdf; ComponentLink3Description: Microchip.com Home; ComponentLink3URL: http://www.microchip.com/
footprint TQFP-PT44_N (Thin QFP, 44-Leads, Body 10x10mm, Pitch 0.8mm, IPC Medium Density)
footprint TQFP-PT44_L (Thin QFP, 44-Leads, Body 10x10mm, Pitch 0.8mm, IPC High Density)
footprint TQFP-PT44_M (Thin QFP, 44-Leads, Body 10x10mm, Pitch 0.8mm, IPC Low Density)
pins: 1 RC7/PMA4/RX1/DT1/SDO1/RP18 (io), 2 RD4/PMD4/RP21 (io), 3 RD5/PMD5/RP22 (io), 4 RD6/PMD6/RP23 (io), 5 RD7/PMD7/RP24 (io), 6 VSS (power), 7 VDD (power), 8 RB0/AN12/INT0/RP3 (io), 9 RB1/AN10/PMBE/RTCC/RP4 (io), 10 RB2/AN8/CTEDG1/PMA3/VMO/REFO/RP5 (io), 11 RB3/AN9/CTEDG2/PMA2/VPO/RP6 (io), 12 NC, 13 NC, 14 RB4/PMA1/KBI0/SCK1/SCL1/RP7 (io), 15 RB5/PMA0/KBI1/SDI1/SDA1/RP8 (io), 16 RB6/KBI2/PGC/RP9 (io), 17 RB7/KBI3/PGD/RP10 (io), 18 ~{MCLR} (in), 19 RA0/AN0/C1INA/ULPWU/PMA6/RP0 (io), 20 RA1/AN1/C2INA/PMA7/RP1 (io), 21 RA2/AN2/VREF-/CVREF-/C2INB (io), 22 RA3/AN3/VREF+/C1INB (io), 23 VDDCORE/VCAP (power), 24 RA5/AN4/~{SS1}/HLVDIN/RCV/RP2 (io), 25 RE0/AN5/PMRD (io), 26 RE1/AN6/PMWR (io), 27 RE2/AN7/PMCS (io), 28 VDD (power), 29 VSS (power), 30 OSC1/CLKI/RA7 (io), 31 OSC2/CLKO/RA6 (io), 32 RC0/T1OSO/T1CKI/RP11 (io), 33 NC, 34 NC, 35 RC1/T1OSI/~{UOE}/RP12 (io), 36 RC2/AN11/CTPLS/RP13 (io), 37 VUSB (power), 38 RD0/PMD0/SCL2 (io), 39 RD1/PMD1/SDA2 (io), 40 RD2/PMD2/RP19 (io), 41 RD3/PMD3/RP20 (io), 42 RC4/D-/VM (io), 43 RC5/D+/VP (io), 44 RC6/PMA5/TX1/CK1/RP17 (io)

## PIC18LF1220-I/ML
designator U?
High Performance, Enhanced Flash Microcontroller with 10-Bit A/D and nanoWatt Technology, 4K Flash, 28-Pin QFN, Industrial Temperature; FirstPublished: 11-Oct-2004; LatestRevisionDate: 29-Jan-2009; LatestRevisionNote: Sch. layout revised. 3D Model Removed.; DatasheetVersion: revF, Feb-2007; PackageVersion: revBB, Aug-2009; PackageReference: QFN-ML28; Publisher: Altium Limited; PackageDescription: 28-Lead Plastic Quad Flat, No Lead Package (ML) - 6x6 mm Body [QFN] with 0.55 mm Contact Length; Supplier 1: Digi-Key; Supplier Part Number 1: PIC18LF1220-I/ML-ND; Code_JEDEC: MO-220; Code_IPC: QFN65P600X600-28V; ComponentLink1Description: Datasheet; ComponentLink1URL: http://ww1.microchip.com/downloads/en/DeviceDoc/39605F.pdf; ComponentLink2Description: Packaging Specification; ComponentLink2URL: http://www.microchip.com/stellent/groups/techpub_sg/documents/packagingspec/en012702.pdf; ComponentLink3Description: Microchip.com Home; ComponentLink3URL: http://www.microchip.com/
footprint QFN-ML28_N (QFN, 28-Leads, Body 6x6 mm, Pitch 0.65mm, IPC Medium Density)
footprint QFN-ML28_L (QFN, 28-Leads, Body 6x6 mm, Pitch 0.65mm, IPC High Density)
footprint QFN-ML28_M (QFN, 28-Leads, Body 6x6 mm, Pitch 0.65mm, IPC Low Density)
pins: 1 ~{MCLR}/VPP/RA5 (in), 2 NC, 3 VSS (power), 4 NC, 5 AVSS (power), 6 NC, 7 RA2/AN2/VREF- (io), 8 RA3/AN3/VREF+ (io), 9 RB0/AN4/INT0 (io), 10 RB1/AN5/TX/CK/INT1 (io), 11 NC, 12 RB4/AN6/RX/DT/KBI0 (io), 13 RB5/PGM/KBI1 (io), 14 NC, 15 RB6/PGC/T1OSO/T1CKI/P1C/KBI2 (io), 16 RB7/PGD/T1OSI/P1D/KBI3 (io), 17 AVDD (power), 18 NC, 19 VDD (power), 20 OSC2/CLKO/RA6 (io), 21 OSC1/CLKI/RA7 (io), 22 NC, 23 RB2/P1B/INT2 (io), 24 RB3/CCP1/P1A (io), 25 NC, 26 RA0/AN0 (io), 27 RA1/AN1/LVDIN (io), 28 RA4/T0CKI (io), 29 Thermal Pad (power)

## PIC18LF1220-I/P
designator U?
High Performance, Enhanced Flash Microcontroller with 10-Bit A/D and nanoWatt Technology, 4K Flash, 18-Pin PDIP, Industrial Temperature; FirstPublished: 11-Oct-2004; LatestRevisionDate: 29-Jan-2009; LatestRevisionNote: Sch. layout revised. 3D Model Removed.; DatasheetVersion: revF, Feb-2007; PackageVersion: revBB, Aug-2009; PackageReference: PDIP300-P18; Publisher: Altium Limited; PackageDescription: 18-Lead Plastic Dual In-Line (P) - 300 mil Body [PDIP]; Supplier 1: Digi-Key; Supplier Part Number 1: PIC18LF1220-I/P-ND; Supplier 2: Farnell; Supplier Part Number 2: 1388166; Supplier 3: Newark; Supplier Part Number 3: 96K3961; Code_JEDEC: MS-001; ComponentLink1Description: Datasheet; ComponentLink1URL: http://ww1.microchip.com/downloads/en/DeviceDoc/39605F.pdf; ComponentLink2Description: Packaging Specification; ComponentLink2URL: http://www.microchip.com/stellent/groups/techpub_sg/documents/packagingspec/en012702.pdf; ComponentLink3Description: Microchip.com Home; ComponentLink3URL: http://www.microchip.com/
footprint PDIP300-P18 (DIP, 18-Leads, Row Spacing 7.62mm, Pitch 2.54mm, Body 22.9x6.6mm)
pins: 1 RA0/AN0 (io), 2 RA1/AN1/LVDIN (io), 3 RA4/T0CKI (io), 4 ~{MCLR}/VPP/RA5 (in), 5 VSS/AVSS (power), 6 RA2/AN2/VREF- (io), 7 RA3/AN3/VREF+ (io), 8 RB0/AN4/INT0 (io), 9 RB1/AN5/TX/CK/INT1 (io), 10 RB4/AN6/RX/DT/KBI0 (io), 11 RB5/PGM/KBI1 (io), 12 RB6/PGC/T1OSO/T1CKI/P1C/KBI2 (io), 13 RB7/PGD/T1OSI/P1D/KBI3 (io), 14 VDD/AVDD (power), 15 OSC2/CLKO/RA6 (io), 16 OSC1/CLKI/RA7 (io), 17 RB2/P1B/INT2 (io), 18 RB3/CCP1/P1A (io)

## PIC18LF1220-I/SO
designator U?
High Performance, Enhanced Flash Microcontroller with 10-Bit A/D and nanoWatt Technology, 4K Flash, 18-Pin SOIC, Industrial Temperature; FirstPublished: 11-Oct-2004; LatestRevisionDate: 29-Jan-2009; LatestRevisionNote: Sch. layout revised. 3D Model Removed.; DatasheetVersion: revF, Feb-2007; PackageVersion: revBB, Aug-2009; PackageReference: SOIC-SO18; Publisher: Altium Limited; PackageDescription: 18-Lead Plastic Small Outline (SO) - Wide 7.50mm Body [SOIC]; Supplier 1: Digi-Key; Supplier Part Number 1: PIC18LF1220-I/SO-ND; Supplier 2: Farnell; Supplier Part Number 2: 1439750; Supplier 3: Newark; Supplier Part Number 3: 92C5105; Code_JEDEC: MS-013; ComponentLink1Description: Datasheet; ComponentLink1URL: http://ww1.microchip.com/downloads/en/DeviceDoc/39605F.pdf; ComponentLink2Description: Packaging Specification; ComponentLink2URL: http://www.microchip.com/stellent/groups/techpub_sg/documents/packagingspec/en012702.pdf; ComponentLink3Description: Microchip.com Home; ComponentLink3URL: http://www.microchip.com/
footprint SOIC-SO18_N (SOIC, 18-Leads, Body 11.5x7.5mm, Pitch 1.27mm, IPC Medium Density)
footprint SOIC-SO18_L (SOIC, 18-Leads, Body 11.5x7.5mm, Pitch 1.27mm, IPC High Density)
footprint SOIC-SO18_M (SOIC, 18-Leads, Body 11.5x7.5mm, Pitch 1.27mm, IPC Low Density)
pins: 1 RA0/AN0 (io), 2 RA1/AN1/LVDIN (io), 3 RA4/T0CKI (io), 4 ~{MCLR}/VPP/RA5 (in), 5 VSS/AVSS (power), 6 RA2/AN2/VREF- (io), 7 RA3/AN3/VREF+ (io), 8 RB0/AN4/INT0 (io), 9 RB1/AN5/TX/CK/INT1 (io), 10 RB4/AN6/RX/DT/KBI0 (io), 11 RB5/PGM/KBI1 (io), 12 RB6/PGC/T1OSO/T1CKI/P1C/KBI2 (io), 13 RB7/PGD/T1OSI/P1D/KBI3 (io), 14 VDD/AVDD (power), 15 OSC2/CLKO/RA6 (io), 16 OSC1/CLKI/RA7 (io), 17 RB2/P1B/INT2 (io), 18 RB3/CCP1/P1A (io)

## PIC18LF1220-I/SS
designator U?
High Performance, Enhanced Flash Microcontroller with 10-Bit A/D and nanoWatt Technology, 4K Flash, 20-Pin SSOP, Industrial Temperature; FirstPublished: 11-Oct-2004; LatestRevisionDate: 29-Jan-2009; LatestRevisionNote: Sch. layout revised. 3D Model Removed.; DatasheetVersion: revF, Feb-2007; PackageVersion: revBB, Aug-2009; PackageReference: SSOP-SS20; Publisher: Altium Limited; PackageDescription: 20-Lead Plastic Shrink Small Outline (SS) - 5.3mm Body [SSOP]; Supplier 1: Digi-Key; Supplier Part Number 1: PIC18LF1220-I/SS-ND; Supplier 2: Farnell; Supplier Part Number 2: 1712092; Supplier 3: Newark; Supplier Part Number 3: 92C5106; Code_JEDEC: MO-150; Code_IPC: SOP65P780-20; ComponentLink1Description: Datasheet; ComponentLink1URL: http://ww1.microchip.com/downloads/en/DeviceDoc/39605F.pdf; ComponentLink2Description: Packaging Specification; ComponentLink2URL: http://www.microchip.com/stellent/groups/techpub_sg/documents/packagingspec/en012702.pdf; ComponentLink3Description: Microchip.com Home; ComponentLink3URL: http://www.microchip.com/
footprint SSOP-SS20_N (SOP, 20-Leads, Body 7.2x5.2mm, Pitch 0.65mm, IPC Medium Density)
footprint SSOP-SS20_L (SOP, 20-Leads, Body 7.2x5.2mm, Pitch 0.65mm, IPC High Density)
footprint SSOP-SS20_M (SOP, 20-Leads, Body 7.2x5.2mm, Pitch 0.65mm, IPC Low Density)
pins: 1 RA0/AN0 (io), 2 RA1/AN1/LVDIN (io), 3 RA4/T0CKI (io), 4 ~{MCLR}/VPP/RA5 (in), 5 VSS (power), 6 AVSS (power), 7 RA2/AN2/VREF- (io), 8 RA3/AN3/VREF+ (io), 9 RB0/AN4/INT0 (io), 10 RB1/AN5/TX/CK/INT1 (io), 11 RB4/AN6/RX/DT/KBI0 (io), 12 RB5/PGM/KBI1 (io), 13 RB6/PGC/T1OSO/T1CKI/P1C/KBI2 (io), 14 RB7/PGD/T1OSI/P1D/KBI3 (io), 15 AVDD (power), 16 VDD (power), 17 OSC2/CLKO/RA6 (io), 18 OSC1/CLKI/RA7 (io), 19 RB2/P1B/INT2 (io), 20 RB3/CCP1/P1A (io)

## PIC18LF1220T-I/ML
designator U?
High Performance, Enhanced Flash Microcontroller with 10-Bit A/D and nanoWatt Technology, 4K Flash, 28-Pin QFN, Industrial Temperature, Tape and Reel; ComponentAvailability: Unknown. Contact manufacturer to determine status.; FirstPublished: 11-Oct-2004; LatestRevisionDate: 29-Jan-2009; LatestRevisionNote: Sch. layout revised. 3D Model Removed.; DatasheetVersion: revF, Feb-2007; PackageVersion: revBB, Aug-2009; PackageReference: QFN-ML28; Publisher: Altium Limited; PackageDescription: 28-Lead Plastic Quad Flat, No Lead Package (ML) - 6x6 mm Body [QFN] with 0.55 mm Contact Length; Supplier 1: Digi-Key; Supplier Part Number 1: PIC18LF1220T-I/ML-ND; Code_JEDEC: MO-220; Code_IPC: QFN65P600X600-28V; ComponentLink1Description: Datasheet; ComponentLink1URL: http://ww1.microchip.com/downloads/en/DeviceDoc/39605F.pdf; ComponentLink2Description: Packaging Specification; ComponentLink2URL: http://www.microchip.com/stellent/groups/techpub_sg/documents/packagingspec/en012702.pdf; ComponentLink3Description: Microchip.com Home; ComponentLink3URL: http://www.microchip.com/
footprint QFN-ML28_N (QFN, 28-Leads, Body 6x6 mm, Pitch 0.65mm, IPC Medium Density)
footprint QFN-ML28_L (QFN, 28-Leads, Body 6x6 mm, Pitch 0.65mm, IPC High Density)
footprint QFN-ML28_M (QFN, 28-Leads, Body 6x6 mm, Pitch 0.65mm, IPC Low Density)
pins: 1 ~{MCLR}/VPP/RA5 (in), 2 NC, 3 VSS (power), 4 NC, 5 AVSS (power), 6 NC, 7 RA2/AN2/VREF- (io), 8 RA3/AN3/VREF+ (io), 9 RB0/AN4/INT0 (io), 10 RB1/AN5/TX/CK/INT1 (io), 11 NC, 12 RB4/AN6/RX/DT/KBI0 (io), 13 RB5/PGM/KBI1 (io), 14 NC, 15 RB6/PGC/T1OSO/T1CKI/P1C/KBI2 (io), 16 RB7/PGD/T1OSI/P1D/KBI3 (io), 17 AVDD (power), 18 NC, 19 VDD (power), 20 OSC2/CLKO/RA6 (io), 21 OSC1/CLKI/RA7 (io), 22 NC, 23 RB2/P1B/INT2 (io), 24 RB3/CCP1/P1A (io), 25 NC, 26 RA0/AN0 (io), 27 RA1/AN1/LVDIN (io), 28 RA4/T0CKI (io), 29 Thermal Pad (power)

## PIC18LF1220T-I/SO
designator U?
High Performance, Enhanced Flash Microcontroller with 10-Bit A/D and nanoWatt Technology, 4K Flash, 18-Pin SOIC, Industrial Temperature, Tape and Reel; ComponentAvailability: Unknown. Contact manufacturer to determine status.; FirstPublished: 11-Oct-2004; LatestRevisionDate: 29-Jan-2009; LatestRevisionNote: Sch. layout revised. 3D Model Removed.; DatasheetVersion: revF, Feb-2007; PackageVersion: revBB, Aug-2009; PackageReference: SOIC-SO18; Publisher: Altium Limited; PackageDescription: 18-Lead Plastic Small Outline (SO) - Wide 7.50mm Body [SOIC]; Supplier 1: Digi-Key; Supplier Part Number 1: PIC18LF1220T-I/SO-ND; Code_JEDEC: MS-013; ComponentLink1Description: Datasheet; ComponentLink1URL: http://ww1.microchip.com/downloads/en/DeviceDoc/39605F.pdf; ComponentLink2Description: Packaging Specification; ComponentLink2URL: http://www.microchip.com/stellent/groups/techpub_sg/documents/packagingspec/en012702.pdf; ComponentLink3Description: Microchip.com Home; ComponentLink3URL: http://www.microchip.com/
footprint SOIC-SO18_N (SOIC, 18-Leads, Body 11.5x7.5mm, Pitch 1.27mm, IPC Medium Density)
footprint SOIC-SO18_L (SOIC, 18-Leads, Body 11.5x7.5mm, Pitch 1.27mm, IPC High Density)
footprint SOIC-SO18_M (SOIC, 18-Leads, Body 11.5x7.5mm, Pitch 1.27mm, IPC Low Density)
pins: 1 RA0/AN0 (io), 2 RA1/AN1/LVDIN (io), 3 RA4/T0CKI (io), 4 ~{MCLR}/VPP/RA5 (in), 5 VSS/AVSS (power), 6 RA2/AN2/VREF- (io), 7 RA3/AN3/VREF+ (io), 8 RB0/AN4/INT0 (io), 9 RB1/AN5/TX/CK/INT1 (io), 10 RB4/AN6/RX/DT/KBI0 (io), 11 RB5/PGM/KBI1 (io), 12 RB6/PGC/T1OSO/T1CKI/P1C/KBI2 (io), 13 RB7/PGD/T1OSI/P1D/KBI3 (io), 14 VDD/AVDD (power), 15 OSC2/CLKO/RA6 (io), 16 OSC1/CLKI/RA7 (io), 17 RB2/P1B/INT2 (io), 18 RB3/CCP1/P1A (io)

## PIC18LF1220T-I/SS
designator U?
High Performance, Enhanced Flash Microcontroller with 10-Bit A/D and nanoWatt Technology, 4K Flash, 20-Pin SSOP, Industrial Temperature, Tape and Reel; FirstPublished: 11-Oct-2004; LatestRevisionDate: 29-Jan-2009; LatestRevisionNote: Sch. layout revised. 3D Model Removed.; DatasheetVersion: revF, Feb-2007; PackageVersion: revBB, Aug-2009; PackageReference: SSOP-SS20; Publisher: Altium Limited; PackageDescription: 20-Lead Plastic Shrink Small Outline (SS) - 5.3mm Body [SSOP]; Supplier 1: Digi-Key; Supplier Part Number 1: PIC18LF1220T-I/SS-ND; Supplier 2: Newark; Supplier Part Number 2: 92C5109; Code_JEDEC: MO-150; Code_IPC: SOP65P780-20; ComponentLink1Description: Datasheet; ComponentLink1URL: http://ww1.microchip.com/downloads/en/DeviceDoc/39605F.pdf; ComponentLink2Description: Packaging Specification; ComponentLink2URL: http://www.microchip.com/stellent/groups/techpub_sg/documents/packagingspec/en012702.pdf; ComponentLink3Description: Microchip.com Home; ComponentLink3URL: http://www.microchip.com/
footprint SSOP-SS20_N (SOP, 20-Leads, Body 7.2x5.2mm, Pitch 0.65mm, IPC Medium Density)
footprint SSOP-SS20_L (SOP, 20-Leads, Body 7.2x5.2mm, Pitch 0.65mm, IPC High Density)
footprint SSOP-SS20_M (SOP, 20-Leads, Body 7.2x5.2mm, Pitch 0.65mm, IPC Low Density)
pins: 1 RA0/AN0 (io), 2 RA1/AN1/LVDIN (io), 3 RA4/T0CKI (io), 4 ~{MCLR}/VPP/RA5 (in), 5 VSS (power), 6 AVSS (power), 7 RA2/AN2/VREF- (io), 8 RA3/AN3/VREF+ (io), 9 RB0/AN4/INT0 (io), 10 RB1/AN5/TX/CK/INT1 (io), 11 RB4/AN6/RX/DT/KBI0 (io), 12 RB5/PGM/KBI1 (io), 13 RB6/PGC/T1OSO/T1CKI/P1C/KBI2 (io), 14 RB7/PGD/T1OSI/P1D/KBI3 (io), 15 AVDD (power), 16 VDD (power), 17 OSC2/CLKO/RA6 (io), 18 OSC1/CLKI/RA7 (io), 19 RB2/P1B/INT2 (io), 20 RB3/CCP1/P1A (io)

## PIC18LF1230-I/ML
designator U?
Enhanced Flash Microcontroller with nanoWatt Technology, High Performance PWM and A/D, 4K Flash, 28-Pin QFN, Industrial Temperature; FirstPublished: 29-Jan-2009; DatasheetVersion: revC, Mar-2007; PackageVersion: revBB, Aug-2009; PackageReference: QFN-ML28; Publisher: Altium Limited; PackageDescription: 28-Lead Plastic Quad Flat, No Lead Package (ML) - 6x6 mm Body [QFN] with 0.55 mm Contact Length; Supplier 1: Digi-Key; Supplier Part Number 1: PIC18LF1230-I/ML-ND; Supplier 2: Newark; Supplier Part Number 2: 88K6101; Code_JEDEC: MO-220; Code_IPC: QFN65P600X600-28V; ComponentLink1Description: Datasheet; ComponentLink1URL: http://ww1.microchip.com/downloads/en/DeviceDoc/39758c.pdf; ComponentLink2Description: Packaging Specification; ComponentLink2URL: http://www.microchip.com/stellent/groups/techpub_sg/documents/packagingspec/en012702.pdf; ComponentLink3Description: Microchip.com Home; ComponentLink3URL: http://www.microchip.com/
footprint QFN-ML28_N (QFN, 28-Leads, Body 6x6 mm, Pitch 0.65mm, IPC Medium Density)
footprint QFN-ML28_L (QFN, 28-Leads, Body 6x6 mm, Pitch 0.65mm, IPC High Density)
footprint QFN-ML28_M (QFN, 28-Leads, Body 6x6 mm, Pitch 0.65mm, IPC Low Density)
pins: 1 ~{MCLR}/VPP/RA5/~{FLTA} (in), 2 NC, 3 VSS (power), 4 NC, 5 AVSS (power), 6 NC, 7 RA2/TX/CK (io), 8 RA3/RX/DT (io), 9 RB0/PWM0 (io), 10 RB1/PWM1 (io), 11 NC, 12 RB4/PWM2 (io), 13 RB5/PWM3 (io), 14 NC, 15 RB6/PWM4/PGC (io), 16 RB7/PWM5/PGD (io), 17 AVDD (power), 18 NC, 19 VDD (power), 20 RA6/OSC2/CLKO/T1OSO/T1CKI/AN3 (io), 21 RA7/OSC1/CLKI/T1OSI/~{FLTA} (io), 22 NC, 23 RB2/INT2/KBI2/CMP2/T1OSO/T1CKI (io), 24 RB3/INT3/KBI3/CMP1/T1OSI (io), 25 NC, 26 RA0/AN0/INT0/KBI0/CMP0 (io), 27 RA1/AN1/INT1/KBI1 (io), 28 RA4/T0CKI/AN2/VREF+ (io), 29 Thermal Pad (power)

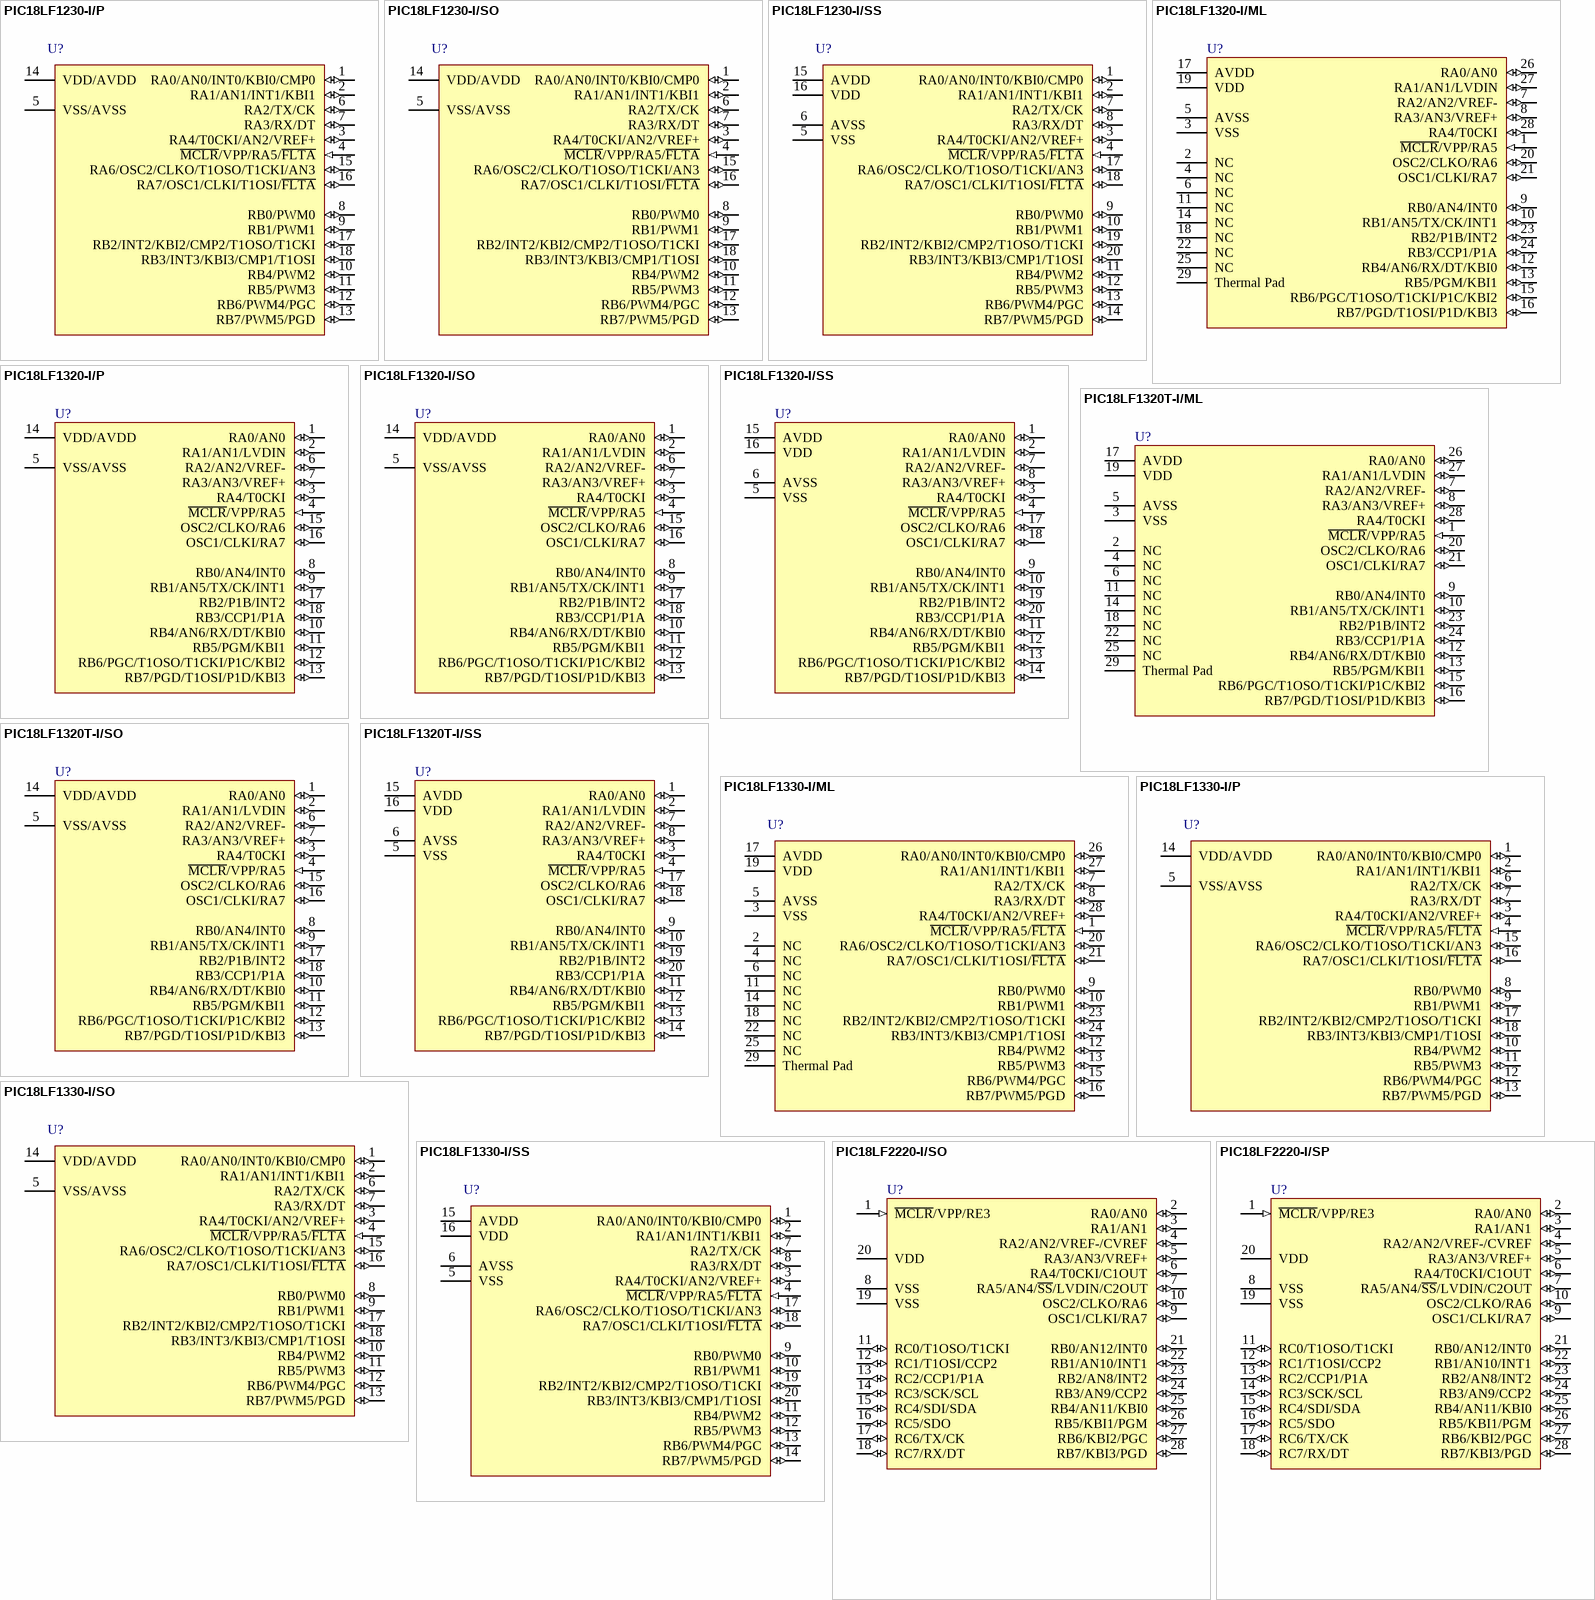
[diagram p117: symbols PIC18LF1230-I/P to PIC18LF2220-I/SP]

## PIC18LF1230-I/P
designator U?
Enhanced Flash Microcontroller with nanoWatt Technology, High Performance PWM and A/D, 4K Flash, 18-Pin PDIP, Industrial Temperature; FirstPublished: 29-Jan-2009; DatasheetVersion: revC, Mar-2007; PackageVersion: revBB, Aug-2009; PackageReference: PDIP300-P18; Publisher: Altium Limited; PackageDescription: 18-Lead Plastic Dual In-Line (P) - 300 mil Body [PDIP]; Supplier 1: Digi-Key; Supplier Part Number 1: PIC18LF1230-I/P-ND; Supplier 2: Newark; Supplier Part Number 2: 88K6102; Code_JEDEC: MS-001; ComponentLink1Description: Datasheet; ComponentLink1URL: http://ww1.microchip.com/downloads/en/DeviceDoc/39758c.pdf; ComponentLink2Description: Packaging Specification; ComponentLink2URL: http://www.microchip.com/stellent/groups/techpub_sg/documents/packagingspec/en012702.pdf; ComponentLink3Description: Microchip.com Home; ComponentLink3URL: http://www.microchip.com/
footprint PDIP300-P18 (DIP, 18-Leads, Row Spacing 7.62mm, Pitch 2.54mm, Body 22.9x6.6mm)
pins: 1 RA0/AN0/INT0/KBI0/CMP0 (io), 2 RA1/AN1/INT1/KBI1 (io), 3 RA4/T0CKI/AN2/VREF+ (io), 4 ~{MCLR}/VPP/RA5/~{FLTA} (in), 5 VSS/AVSS (power), 6 RA2/TX/CK (io), 7 RA3/RX/DT (io), 8 RB0/PWM0 (io), 9 RB1/PWM1 (io), 10 RB4/PWM2 (io), 11 RB5/PWM3 (io), 12 RB6/PWM4/PGC (io), 13 RB7/PWM5/PGD (io), 14 VDD/AVDD (power), 15 RA6/OSC2/CLKO/T1OSO/T1CKI/AN3 (io), 16 RA7/OSC1/CLKI/T1OSI/~{FLTA} (io), 17 RB2/INT2/KBI2/CMP2/T1OSO/T1CKI (io), 18 RB3/INT3/KBI3/CMP1/T1OSI (io)

## PIC18LF1230-I/SO
designator U?
Enhanced Flash Microcontroller with nanoWatt Technology, High Performance PWM and A/D, 4K Flash, 18-Pin SOIC, Industrial Temperature; FirstPublished: 29-Jan-2009; DatasheetVersion: revC, Mar-2007; PackageVersion: revBB, Aug-2009; PackageReference: SOIC-SO18; Publisher: Altium Limited; PackageDescription: 18-Lead Plastic Small Outline (SO) - Wide 7.50mm Body [SOIC]; Supplier 1: Digi-Key; Supplier Part Number 1: PIC18LF1230-I/SO-ND; Supplier 2: Newark; Supplier Part Number 2: 88K6103; Code_JEDEC: MS-013; ComponentLink1Description: Datasheet; ComponentLink1URL: http://ww1.microchip.com/downloads/en/DeviceDoc/39758c.pdf; ComponentLink2Description: Packaging Specification; ComponentLink2URL: http://www.microchip.com/stellent/groups/techpub_sg/documents/packagingspec/en012702.pdf; ComponentLink3Description: Microchip.com Home; ComponentLink3URL: http://www.microchip.com/
footprint SOIC-SO18_N (SOIC, 18-Leads, Body 11.5x7.5mm, Pitch 1.27mm, IPC Medium Density)
footprint SOIC-SO18_L (SOIC, 18-Leads, Body 11.5x7.5mm, Pitch 1.27mm, IPC High Density)
footprint SOIC-SO18_M (SOIC, 18-Leads, Body 11.5x7.5mm, Pitch 1.27mm, IPC Low Density)
pins: 1 RA0/AN0/INT0/KBI0/CMP0 (io), 2 RA1/AN1/INT1/KBI1 (io), 3 RA4/T0CKI/AN2/VREF+ (io), 4 ~{MCLR}/VPP/RA5/~{FLTA} (in), 5 VSS/AVSS (power), 6 RA2/TX/CK (io), 7 RA3/RX/DT (io), 8 RB0/PWM0 (io), 9 RB1/PWM1 (io), 10 RB4/PWM2 (io), 11 RB5/PWM3 (io), 12 RB6/PWM4/PGC (io), 13 RB7/PWM5/PGD (io), 14 VDD/AVDD (power), 15 RA6/OSC2/CLKO/T1OSO/T1CKI/AN3 (io), 16 RA7/OSC1/CLKI/T1OSI/~{FLTA} (io), 17 RB2/INT2/KBI2/CMP2/T1OSO/T1CKI (io), 18 RB3/INT3/KBI3/CMP1/T1OSI (io)

## PIC18LF1230-I/SS
designator U?
Enhanced Flash Microcontroller with nanoWatt Technology, High Performance PWM and A/D, 4K Flash, 20-Pin SSOP, Industrial Temperature; FirstPublished: 29-Jan-2009; DatasheetVersion: revC, Mar-2007; PackageVersion: revBB, Aug-2009; PackageReference: SSOP-SS20; Publisher: Altium Limited; PackageDescription: 20-Lead Plastic Shrink Small Outline (SS) - 5.3mm Body [SSOP]; Supplier 1: Digi-Key; Supplier Part Number 1: PIC18LF1230-I/SS-ND; Supplier 2: Newark; Supplier Part Number 2: 07P9689; Code_JEDEC: MO-150; Code_IPC: SOP65P780-20; ComponentLink1Description: Datasheet; ComponentLink1URL: http://ww1.microchip.com/downloads/en/DeviceDoc/39758c.pdf; ComponentLink2Description: Packaging Specification; ComponentLink2URL: http://www.microchip.com/stellent/groups/techpub_sg/documents/packagingspec/en012702.pdf; ComponentLink3Description: Microchip.com Home; ComponentLink3URL: http://www.microchip.com/
footprint SSOP-SS20_N (SOP, 20-Leads, Body 7.2x5.2mm, Pitch 0.65mm, IPC Medium Density)
footprint SSOP-SS20_L (SOP, 20-Leads, Body 7.2x5.2mm, Pitch 0.65mm, IPC High Density)
footprint SSOP-SS20_M (SOP, 20-Leads, Body 7.2x5.2mm, Pitch 0.65mm, IPC Low Density)
pins: 1 RA0/AN0/INT0/KBI0/CMP0 (io), 2 RA1/AN1/INT1/KBI1 (io), 3 RA4/T0CKI/AN2/VREF+ (io), 4 ~{MCLR}/VPP/RA5/~{FLTA} (in), 5 VSS (power), 6 AVSS (power), 7 RA2/TX/CK (io), 8 RA3/RX/DT (io), 9 RB0/PWM0 (io), 10 RB1/PWM1 (io), 11 RB4/PWM2 (io), 12 RB5/PWM3 (io), 13 RB6/PWM4/PGC (io), 14 RB7/PWM5/PGD (io), 15 AVDD (power), 16 VDD (power), 17 RA6/OSC2/CLKO/T1OSO/T1CKI/AN3 (io), 18 RA7/OSC1/CLKI/T1OSI/~{FLTA} (io), 19 RB2/INT2/KBI2/CMP2/T1OSO/T1CKI (io), 20 RB3/INT3/KBI3/CMP1/T1OSI (io)

## PIC18LF1320-I/ML
designator U?
High Performance, Enhanced Flash Microcontroller with 10-Bit A/D and nanoWatt Technology, 8K Flash, 28-Pin QFN, Industrial Temperature; FirstPublished: 11-Oct-2004; LatestRevisionDate: 29-Jan-2009; LatestRevisionNote: Sch. layout revised. 3D Model Removed.; DatasheetVersion: revF, Feb-2007; PackageVersion: revBB, Aug-2009; PackageReference: QFN-ML28; Publisher: Altium Limited; PackageDescription: 28-Lead Plastic Quad Flat, No Lead Package (ML) - 6x6 mm Body [QFN] with 0.55 mm Contact Length; Supplier 1: Digi-Key; Supplier Part Number 1: PIC18LF1320-I/ML-ND; Supplier 2: Farnell; Supplier Part Number 2: 1579615; Code_JEDEC: MO-220; Code_IPC: QFN65P600X600-28V; ComponentLink1Description: Datasheet; ComponentLink1URL: http://ww1.microchip.com/downloads/en/DeviceDoc/39605F.pdf; ComponentLink2Description: Packaging Specification; ComponentLink2URL: http://www.microchip.com/stellent/groups/techpub_sg/documents/packagingspec/en012702.pdf; ComponentLink3Description: Microchip.com Home; ComponentLink3URL: http://www.microchip.com/
footprint QFN-ML28_N (QFN, 28-Leads, Body 6x6 mm, Pitch 0.65mm, IPC Medium Density)
footprint QFN-ML28_L (QFN, 28-Leads, Body 6x6 mm, Pitch 0.65mm, IPC High Density)
footprint QFN-ML28_M (QFN, 28-Leads, Body 6x6 mm, Pitch 0.65mm, IPC Low Density)
pins: 1 ~{MCLR}/VPP/RA5 (in), 2 NC, 3 VSS (power), 4 NC, 5 AVSS (power), 6 NC, 7 RA2/AN2/VREF- (io), 8 RA3/AN3/VREF+ (io), 9 RB0/AN4/INT0 (io), 10 RB1/AN5/TX/CK/INT1 (io), 11 NC, 12 RB4/AN6/RX/DT/KBI0 (io), 13 RB5/PGM/KBI1 (io), 14 NC, 15 RB6/PGC/T1OSO/T1CKI/P1C/KBI2 (io), 16 RB7/PGD/T1OSI/P1D/KBI3 (io), 17 AVDD (power), 18 NC, 19 VDD (power), 20 OSC2/CLKO/RA6 (io), 21 OSC1/CLKI/RA7 (io), 22 NC, 23 RB2/P1B/INT2 (io), 24 RB3/CCP1/P1A (io), 25 NC, 26 RA0/AN0 (io), 27 RA1/AN1/LVDIN (io), 28 RA4/T0CKI (io), 29 Thermal Pad (power)